# Altium footprint library RESA_0.25W.PcbLib: 1 footprints
Each footprint in its own frame and in the unit in brackets; x right, y up, seen from the top. Pads: shape width x height; smd on the part's side, far side on the other; paste and mask are expansions set on the pad; w line width, h text height; cw(c..) or ccw(c..) is an arc to the next point about the centre after c.
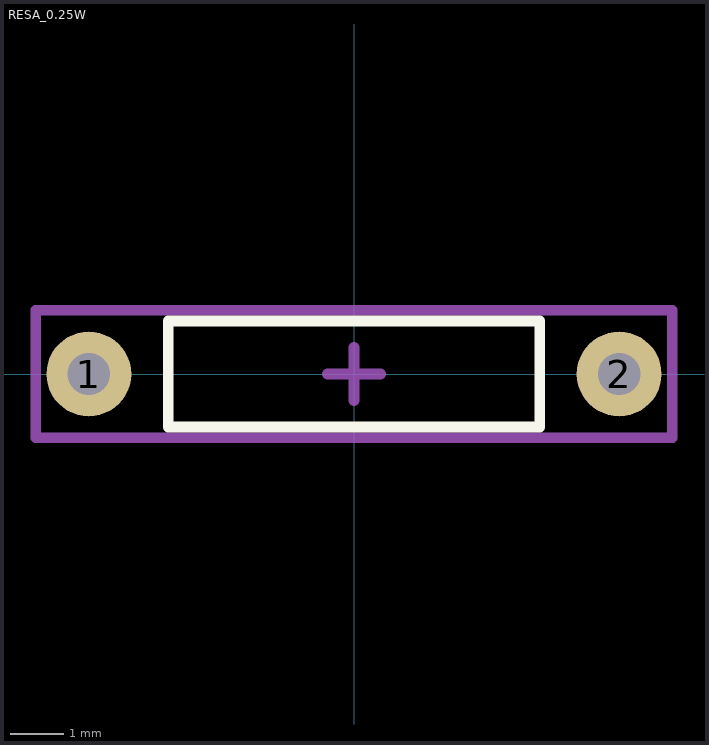
[diagram p0: the footprint, top view; thin cyan lines are the x and y axes]

## RESA_0.25W [mm]
pads (2):
  round 1.6 hole 0.8: 1(-5,0) 2(5,0)
Top Overlay:
  lines w0.2: -3.5,-1 -3.5,1 3.5,1 3.5,-1 -3.5,-1
Mechanical 15:
  lines w0.2: -0.5,0 0.5,0 ; 0,-0.5 0,0.5 ; -6,-1.2 -6,1.2 6,1.2 6,-1.2 -6,-1.2
3D body "User Library-AXIAL_RESISTOR(0_25W).step": height 2.6, standoff -1.5, extent -5.4,-1.2 5.4,1.2